# Altium schematic symbol library SnapEDAsch.SchLib: 1 symbol
Pins are listed as number, name and electrical type; pins without a type are passive.

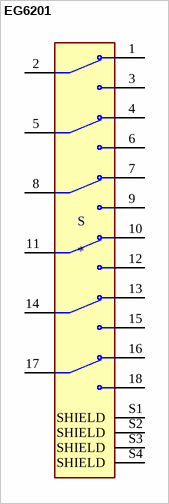
[diagram p0: symbol EG6201]

## EG6201
designator S
Slide Switch 6PDT Through Hole, Right Angle; MF: E-Switch; MP: EG6201; Value: *; Availability: Unavailable; Package: None; SnapEDA_Link: https://www.snapeda.com/parts/EG6201/E-Switch/view-part/550164/?ref=snap; Price: None
footprint SW_EG6201
pins: 1 NC1, 2 COM1, 3 NO1, 4 NC2, 5 COM2, 6 NO2, 7 NC3, 8 COM3, 9 NO3, 10 NC4, 11 COM4, 12 NO4, 13 NC5, 14 COM5, 15 NO5, 16 NC6, 17 COM6, 18 NO6, S1 SHIELD, S2 SHIELD, S3 SHIELD, S4 SHIELD